# EAGLE library part LCD5110_2 (library MTS-OTR_Custom)
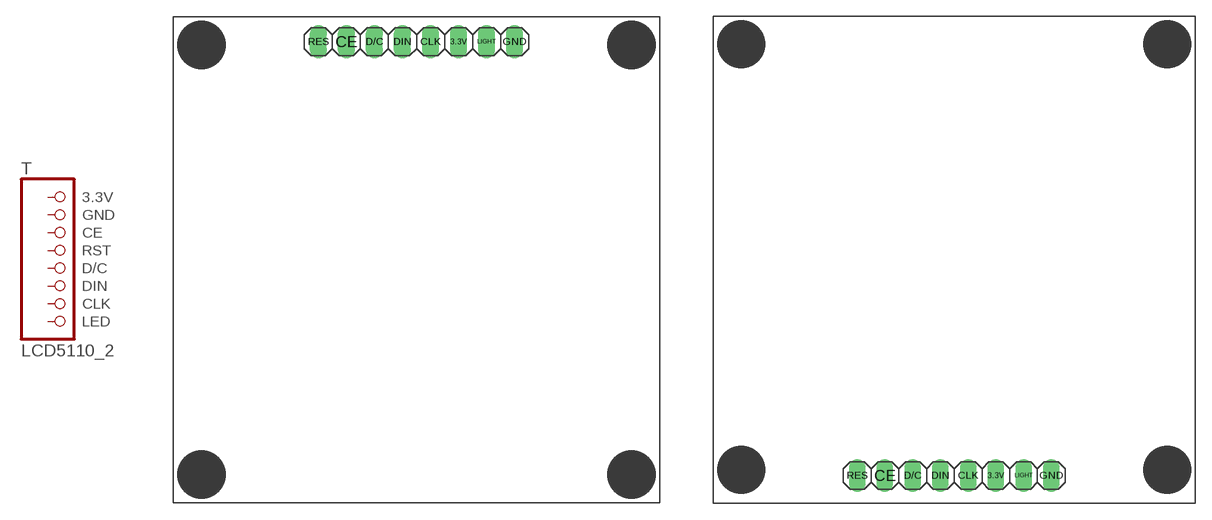
[diagram p27: symbol with the pads of LCD5110T1; footprints LCD5110T1, LCD5110B1]

Designator prefix T

## LCD5110_2TOP  [LCD5110T1]
3.3V  DIN  pas
CE  GND  pas
CLK  D/C  pas
D/C  CE  pas
DIN  RST  pas
GND  LED  pas
LIGHT  CLK  pas
RES  3.3V  pas

## LCD5110_2BOTTOM  [LCD5110B1]
Pads as for LCD5110T1

## Footprint LCD5110T1 (pad centres in mm)
drill 1.016 long: 3.3V 3.81,19.78; CE -6.35,19.78; CLK 1.27,19.78; D/C -3.81,19.78; DIN -1.27,19.78; GND 8.89,19.78; LIGHT 6.35,19.78; RES -8.89,19.78

## Footprint LCD5110B1 (pad centres in mm)
drill 1.016 long: 3.3V 3.81,-20.03; CE -6.35,-20.03; CLK 1.27,-20.03; D/C -3.81,-20.03; DIN -1.27,-20.03; GND 8.89,-20.03; LIGHT 6.35,-20.03; RES -8.89,-20.03